# EAGLE library part TDE1767DP (library ST Microelctronics_By_element14_Batch_1)
Interface circuit
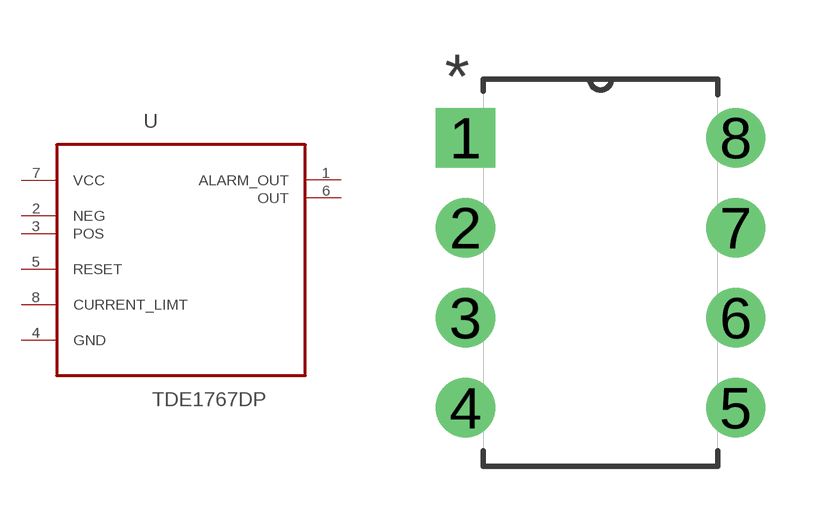
[diagram p389: symbol with the pads of DIP254P762X508-8; footprint DIP254P762X508-8]

Designator prefix U

## TDE1767DP (MPN: TDE1767DP; OC_FARNELL: 1467718; OC_NEWARK: 89K1060; PACKAGE: DIP; SUPPLIER: STMICROELECTRONICS)  [DIP254P762X508-8]
1  ALARM_OUT  out
2  NEG  in
3  POS  in
4  GND  pas
5  RESET  in
6  OUT  out
7  VCC  pwr
8  CURRENT_LIMT  in

## Footprint DIP254P762X508-8 (pad centres in mm)
drill 1.118 square: 1 -7.62,7.62
drill 1.118: 2 -7.62,5.08; 3 -7.62,2.54; 4 -7.62,0; 5 0,0; 6 0,2.54; 7 0,5.08; 8 0,7.62